# EAGLE library part MBT3904DW1T1 (library Discrete)
On-Semiconductor MBT3904DW1T1 Dual General Purpose Transistors
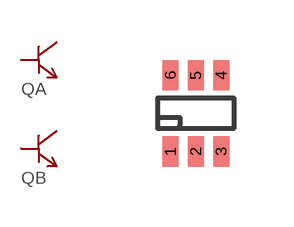
[diagram p2: symbol with the pads of SOT-363; footprint SOT-363]

Designator prefix Q; gates A=NPN B=NPN

## MBT3904DW1T1  [SOT-363]
1  B:E
2  B:B
3  A:C
4  A:E
5  A:B
6  B:C

## Footprint SOT-363 (pad centres in mm)
smd 0.4 x 0.762: 1 -0.635,-0.953; 2 0,-0.953; 3 0.635,-0.953; 4 0.635,0.953; 5 0,0.953; 6 -0.635,0.953